# Altium footprint library MAX_9814_Module.PcbLib: 1 footprints
Each footprint in its own frame and in the unit in brackets; x right, y up, seen from the top. Pads: shape width x height; smd on the part's side, far side on the other; paste and mask are expansions set on the pad; w line width, h text height; cw(c..) or ccw(c..) is an arc to the next point about the centre after c.
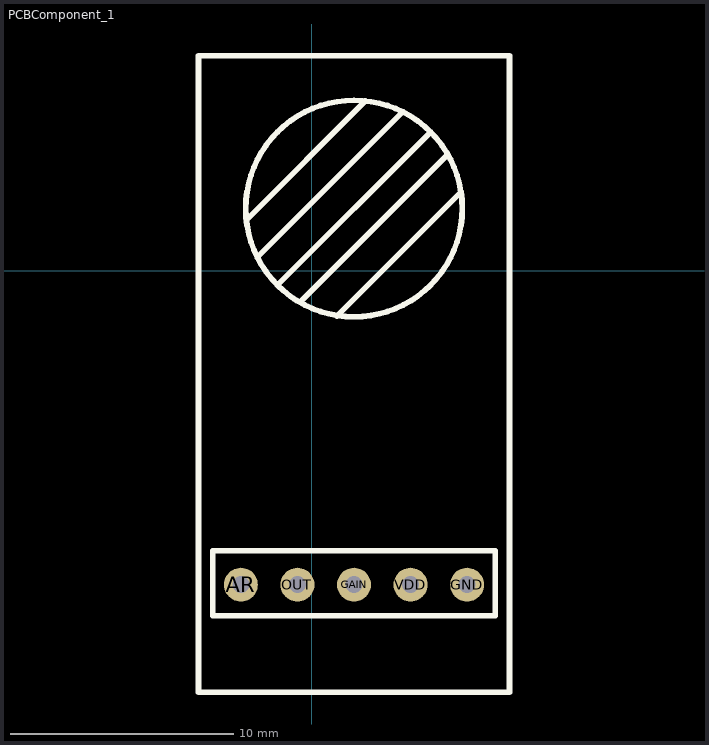
[diagram p0: the footprint, top view; thin cyan lines are the x and y axes]

## PCBComponent_1 [mil]
pads (5):
  round 60 hole 30 paste-99999: AR(-125,-555) GAIN(75,-555) GND(275,-555) OUT(-25,-555) VDD(175,-555)
Top Overlay:
  circle w10: c75,110 r191.44
  lines w10: -115,90 95,300 ; -95,25 160,280 ; -60,-25 210,245 ; -20,-55 240,205 ; 45,-80 260,135 ; -200,-745 350,-745 350,380 -200,380 -200,-745 ; -175,-610 -175,-495 325,-495 325,-610 -175,-610
3D body "MAX9814_V.STEP": height 305.12, standoff -171.56, extent -198.62,-745.04 348.62,380